# EAGLE library part 208E_PROGCARD_EDGE (library ElectricNoodleBox)
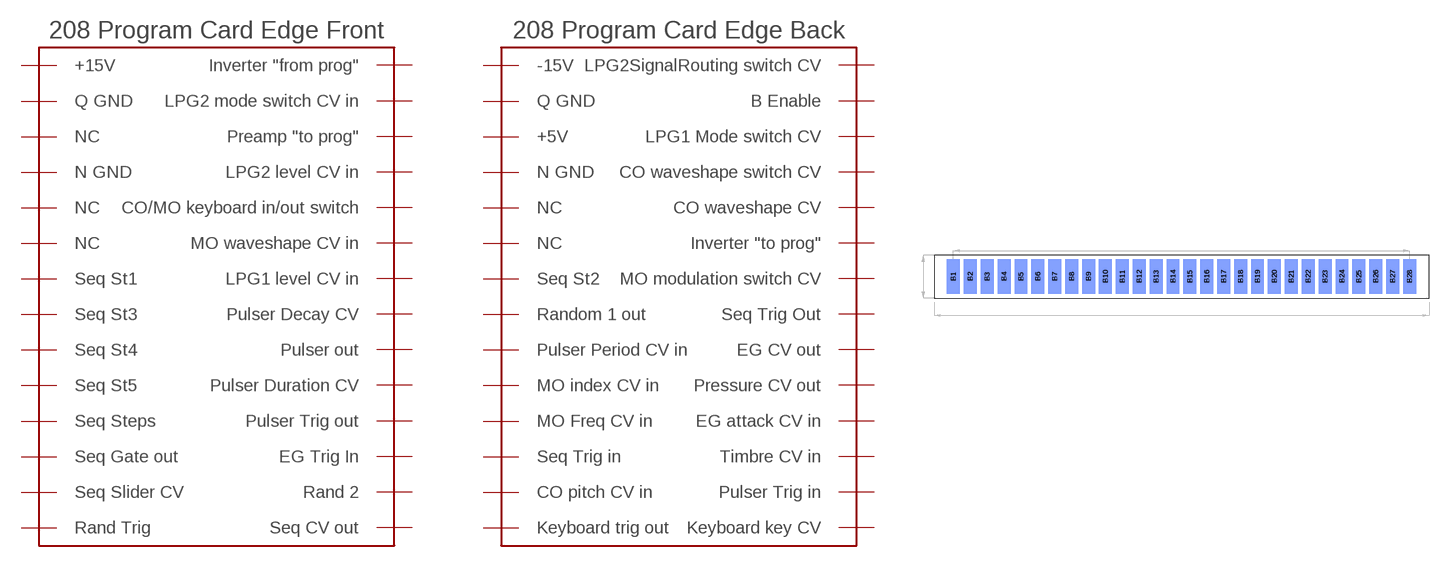
[diagram p0: symbol with the pads of 208E_EDGE_CARD_PLAIN; footprint 208E_EDGE_CARD_PLAIN]

Designator prefix E; gates G$1=208E_CARDEDGE_FRONT G$2=208E_CARDEDGE_BACK

## 208E_PROGCARD_EDGE  [208E_EDGE_CARD_PLAIN]
B1  G$2:BS1
B2  G$2:BS2
B3  G$2:BS3
B4  G$2:BS4
B5  G$2:BS5
B6  G$2:BS6
B7  G$2:BS7
B8  G$2:BS8
B9  G$2:BS9
B10  G$2:BS10
B11  G$2:BS11
B12  G$2:BS12
B13  G$2:BS13
B14  G$2:BS14
B15  G$2:BS15
B16  G$2:BS16
B17  G$2:BS17
B18  G$2:BS18
B19  G$2:BS19
B20  G$2:BS20
B21  G$2:BS21
B22  G$2:BS22
B23  G$2:BS23
B24  G$2:BS24
B25  G$2:BS25
B26  G$2:BS26
B27  G$2:BS27
B28  G$2:BS28
F1  G$1:FS1
F2  G$1:FS2
F3  G$1:FS3
F4  G$1:FS4
F5  G$1:FS5
F6  G$1:FS6
F7  G$1:FS7
F8  G$1:FS8
F9  G$1:FS9
F10  G$1:FS10
F11  G$1:FS11
F12  G$1:FS12
F13  G$1:FS13
F14  G$1:FS14
F15  G$1:FS15
F16  G$1:FS16
F17  G$1:FS17
F18  G$1:FS18
F19  G$1:FS19
F20  G$1:FS20
F21  G$1:FS21
F22  G$1:FS22
F23  G$1:FS23
F24  G$1:FS24
F25  G$1:FS25
F26  G$1:FS26
F27  G$1:FS27
F28  G$1:FS28

## Footprint 208E_EDGE_CARD_PLAIN (pad centres in mm)
smd 3 x 8 bottom: B1 -53,0; B2 -49.075,0; B3 -45.15,0; B4 -41.225,0; B5 -37.3,0; B6 -33.375,0; B7 -29.45,0; B8 -25.525,0; B9 -21.6,0; B10 -17.675,0; B11 -13.75,0; B12 -9.825,0; B13 -5.9,0; B14 -1.975,0; B15 1.95,0; B16 5.875,0; B17 9.8,0; B18 13.725,0; B19 17.65,0; B20 21.575,0; B21 25.5,0; B22 29.425,0; B23 33.35,0; B24 37.275,0; B25 41.2,0; B26 45.125,0; B27 49.05,0; B28 52.975,0
smd 3 x 8: F1 -53,0; F2 -49.075,0; F3 -45.15,0; F4 -41.225,0; F5 -37.3,0; F6 -33.375,0; F7 -29.45,0; F8 -25.525,0; F9 -21.6,0; F10 -17.675,0; F11 -13.75,0; F12 -9.825,0; F13 -5.9,0; F14 -1.975,0; F15 1.95,0; F16 5.875,0; F17 9.8,0; F18 13.725,0; F19 17.65,0; F20 21.575,0; F21 25.5,0; F22 29.425,0; F23 33.35,0; F24 37.275,0; F25 41.2,0; F26 45.125,0; F27 49.05,0; F28 52.975,0